# EAGLE library part 14-SEGMENT (library uBraids_SE_Library)
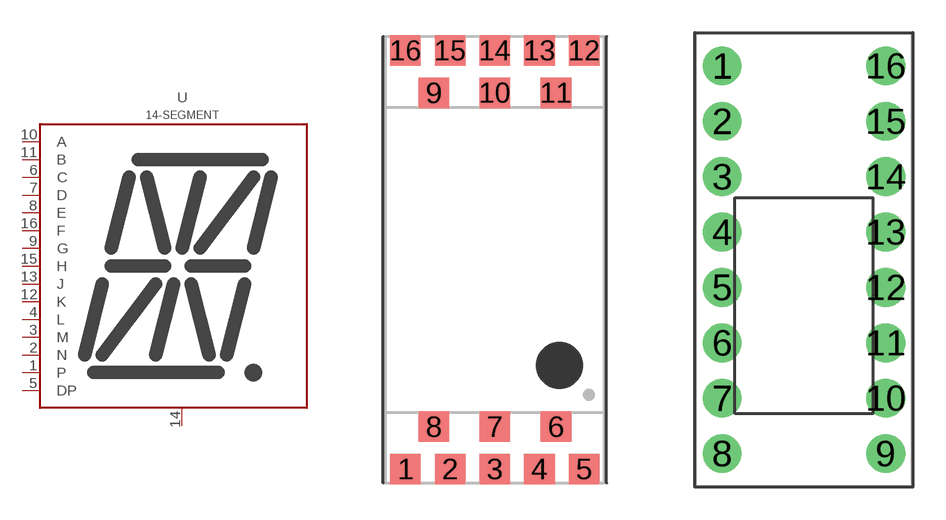
[diagram p6: symbol with the pads of 14-SEGMENT; footprints 14-SEGMENT, PSC39]

Designator prefix -

## 14-SEGMENT-SMD  [14-SEGMENT]
1  P
2  N
3  M
4  L
5  DP
6  C
7  D
8  E
9  G
10  A
11  B
12  K
13  J
14  CATHODE
15  H
16  F

## 14-SEGMENT-PSC39  [PSC39]
1  H
2  G
3  F
4  P
5  E
6  N
7  D
8  M
9  L
10  DP
11  C
12  CATHODE
13  K
14  B
15  J
16  A

## Footprint 14-SEGMENT (pad centres in mm)
smd 1.3 x 1.3: 1 -3.8,-8.9; 2 -1.9,-8.9; 3 0,-8.9; 4 1.9,-8.9; 5 3.8,-8.9; 6 2.6,-7.1; 7 0,-7.1; 8 -2.6,-7.1; 9 -2.6,7.1; 10 0,7.1; 11 2.6,7.1; 12 3.8,8.9; 13 1.9,8.9; 14 0,8.9; 15 -1.9,8.9; 16 -3.8,8.9

## Footprint PSC39 (pad centres in mm)
drill 1.016 pad 1.778: 1 -3.75,10.995; 2 -3.75,8.455; 3 -3.75,5.915; 4 -3.75,3.375; 5 -3.75,0.835; 6 -3.75,-1.705; 7 -3.75,-4.245; 8 -3.75,-6.785; 9 3.75,-6.785; 10 3.75,-4.245; 11 3.75,-1.705; 12 3.75,0.835; 13 3.75,3.375; 14 3.75,5.915; 15 3.75,8.455; 16 3.75,10.995